# EAGLE library part MMA8653FC (library Pygmy)
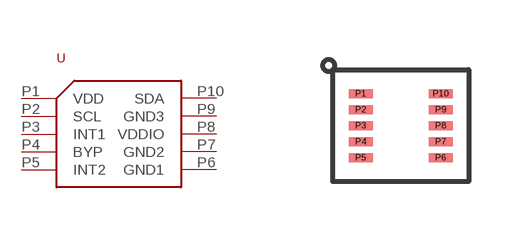
[diagram p84: symbol with the pads of DFN-2X2-10; footprint DFN-2X2-10]

Designator prefix -

## MMA8653FC  [DFN-2X2-10]
P1  VDD
P2  SCL
P3  INT1
P4  BYP
P5  INT2
P6  GND1
P7  GND2
P8  VDDIO
P9  GND3
P10  SDA

## Footprint DFN-2X2-10 (pad centres in mm)
smd 0.6 x 0.225: P1 0,0; P2 0,-0.4; P3 0,-0.8; P4 0,-1.2; P5 0,-1.6; P6 2,-1.6; P7 2,-1.2; P8 2,-0.8; P9 2,-0.4; P10 2,0